# Altium schematic symbol library Misc.SchLib: 2 symbols
Pins are listed as number, name and electrical type; pins without a type are passive.

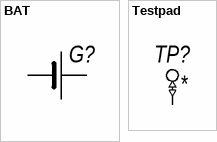
[diagram p0: symbols BAT to Testpad]

## BAT
designator G?
pins: M 1, P 2

## Testpad
designator TP?  (no BOM)
pins: 1 (io)